# Altium schematic symbol library BTI6.Schlib: 2 symbols
Pins are listed as number, name and electrical type; pins without a type are passive.

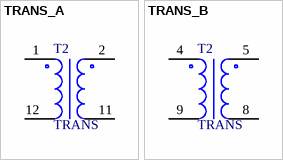
[diagram p0: symbols TRANS_A to TRANS_B]

## TRANS_A
designator T2, comment TRANS
Transformer; Назначение: Трансформатор; Наименование: Трансформатор; ComponentLink1Description: New link; ComponentLink1URL: https://mstator.ru/ru/products/pulse_transformers/bti6-bti9
pins: 1, 2, 11, 12

## TRANS_B
designator T2, comment TRANS
Transformer; Назначение: Трансформатор; Наименование: Трансформатор; ComponentLink1Description: New link; ComponentLink1URL: https://mstator.ru/ru/products/pulse_transformers/bti6-bti9
pins: 4, 5, 8, 9